# Altium schematic symbol library HTU21D.SchLib: 1 symbol
Pins are listed as number, name and electrical type; pins without a type are passive.

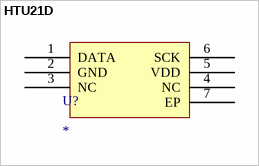
[diagram p0: symbol HTU21D]

## HTU21D
designator U?
pins: 1 DATA, 2 GND, 3 NC, 4 NC, 5 VDD, 6 SCK, 7 EP